# EAGLE library part INA271AIDR-CURRENT-SENSE (library MPPT)
Single Port USB Power Switch and Over-Current Protection HIGH active Source: http://cache.national.com/ds/LM/LM3525.pdf
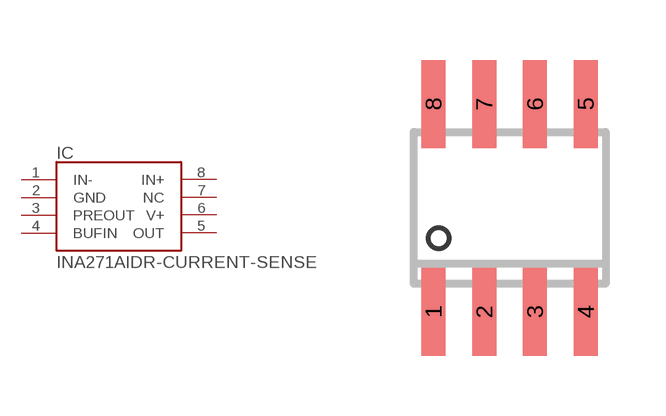
[diagram p0: symbol with the pads of SO08; footprint SO08]

Designator prefix IC

## INA271AIDR-CURRENT-SENSE  [SO08]
1  IN-  in
2  GND  pwr
3  PREOUT  out
4  BUFIN  in
5  OUT  out
6  V+  pwr
7  NC  nc
8  IN+  in

## Footprint SO08 (pad centres in mm)
Small Outline Package 8 NS Package M08A
smd 0.6 x 2.2: 1 -1.905,-2.6; 2 -0.635,-2.6; 3 0.635,-2.6; 4 1.905,-2.6; 5 1.905,2.6; 6 0.635,2.6; 7 -0.635,2.6; 8 -1.905,2.6